# Altium schematic symbol library MACOM.SchLib: 4 symbols
Pins are listed as number, name and electrical type; pins without a type are passive.

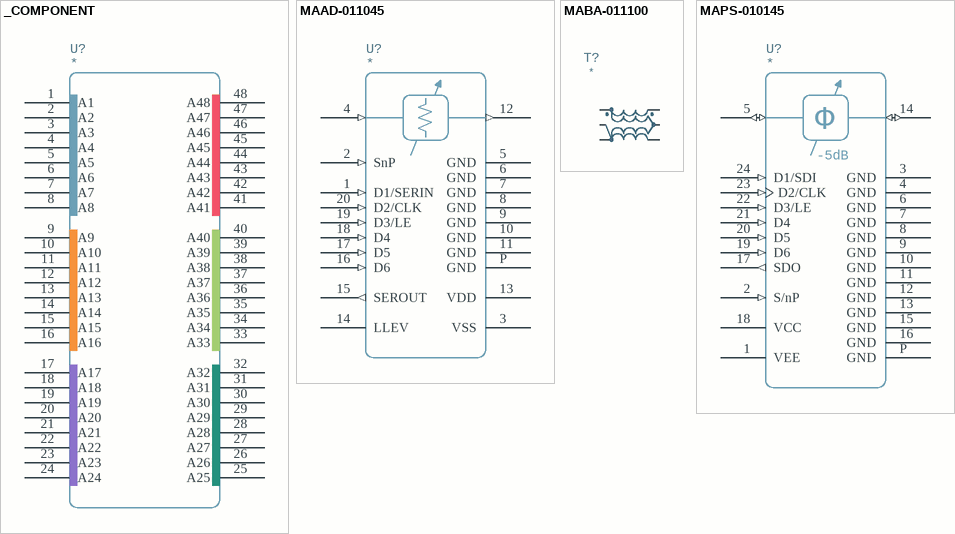
[diagram p0: symbols _COMPONENT to MAPS-010145]

## _COMPONENT
designator U?
pins: 1 A1, 2 A2, 3 A3, 4 A4, 5 A5, 6 A6, 7 A7, 8 A8, 9 A9, 10 A10, 11 A11, 12 A12, 13 A13, 14 A14, 15 A15, 16 A16, 17 A17, 18 A18, 19 A19, 20 A20, 21 A21, 22 A22, 23 A23, 24 A24, 25 A25, 26 A26, 27 A27, 28 A28, 29 A29, 30 A30, 31 A31, 32 A32, 33 A33, 34 A34, 35 A35, 36 A36, 37 A37, 38 A38, 39 A39, 40 A40, 41 A41, 42 A42, 43 A43, 44 A44, 45 A45, 46 A46, 47 A47, 48 A48

## MAAD-011045
designator U?
pins: 1 D1/SERIN (in), 2 SnP (in), 3 VSS, 4 RFIN (in), 5 GND, 6 GND, 7 GND, 8 GND, 9 GND, 10 GND, 11 GND, 12 RFOUT (out), 13 VDD, 14 LLEV, 15 SEROUT (out), 16 D6 (in), 17 D5 (in), 18 D4 (in), 19 D3/LE (in), 20 D2/CLK (in), P GND

## MABA-011100
designator T?
pins: 1, 2, 3, 4, 5, 6

## MAPS-010145
designator U?
footprint QFN_4_24
pins: 1 VEE, 2 S/nP (in), 3 GND, 4 GND, 5 RF1 (io), 6 GND, 7 GND, 8 GND, 9 GND, 10 GND, 11 GND, 12 GND, 13 GND, 14 RF2 (io), 15 GND, 16 GND, 17 SDO (out), 18 VCC, 19 D6 (in), 20 D5 (in), 21 D4 (in), 22 D3/LE (in), 23 D2/CLK (in), 24 D1/SDI (in), P GND
text: Φ; -5dB